# Altium schematic symbol library LSM6DSV320XTR.SchLib: 1 symbol
Pins are listed as number, name and electrical type; pins without a type are passive.

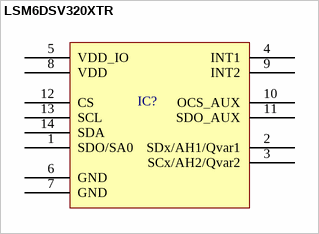
[diagram p0: symbol LSM6DSV320XTR]

## LSM6DSV320XTR
designator IC?
6-axis IMU (inertial measurement unit) with high-g accelerometer, embedded AI, and sensor fusion for high-end applications, car crash detection.; Manufacturer: STMicroelectronics; Sensor Type: Accelerometer, Gyroscope, Temperature, 6 Axis; Output Type: I2C, SPI; Base Product Number: LSM6; Datasheet: https://mm.digikey.com/Volume0/opasdata/d220001/medias/docus/6722/LSM6DSV320XTR.pdf; DigiKey Link: https://www.digikey.com/en/products/detail/stmicroelectronics/LSM6DSV320XTR/26254547?s=N4IgTCBcDaIDIGUCyA2AIggagZjABgA0QBdAXyA; Operating Temperature: -40°C ~ 85°C; Package / Case: 14-VFLGA; Supplier Device Package: 14-LGA (2.5x3); Mounting Type: Surface Mount
footprint LGA-14L 2.5x3.0MM (LGA, 14-Leads, Body 3.00x2.50mm, Pitch 0.50mm)
pins: 1 SDO/SA0, 2 SDx/AH1/Qvar1, 3 SCx/AH2/Qvar2, 4 INT1, 5 VDD_IO, 6 GND, 7 GND, 8 VDD, 9 INT2, 10 OCS_AUX, 11 SDO_AUX, 12 CS, 13 SCL, 14 SDA